# EAGLE library part TPL5111 (library TPL5111DDCR)
Ultra Low Power System Timer (35 nA) for Power Gating in duty cycled applications 6-SOT -40 to 105
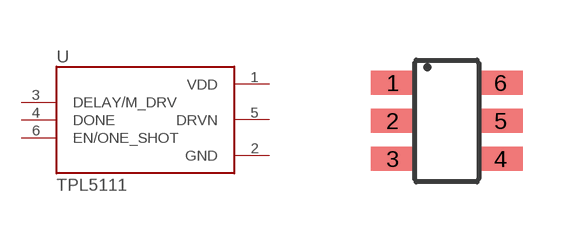
[diagram p0: symbol with the pads of SOT95P280X110-6N; footprint SOT95P280X110-6N]

Designator prefix U

## TPL5111 (AVAILABILITY: Good; DESCRIPTION: Ultra Low Power System Timer _35 nA_ for Power Gating in duty cycled applications 6-SOT -40 to 105; MF: Texas Instruments; MP: TPL5111DDCR; PACKAGE: SOT-23 Texas Instruments; PRICE: 0.50 USD)  [SOT95P280X110-6N]
1  VDD  pwr
2  GND  pwr
3  DELAY/M_DRV  in
4  DONE  in
5  DRVN  out
6  EN/ONE_SHOT  in

## Footprint SOT95P280X110-6N (pad centres in mm)
smd 1.1 x 0.6: 1 -1.35,0.95; 2 -1.35,0; 3 -1.35,-0.95; 4 1.35,-0.95; 5 1.35,0; 6 1.35,0.95